# Altium schematic symbol library Diodes TVS.SchLib: 1 symbol
Pins are listed as number, name and electrical type; pins without a type are passive.

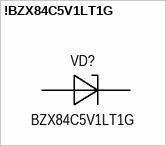
[diagram p0: symbol !BZX84C5V1LT1G]

## !BZX84C5V1LT1G
designator VD?, comment BZX84C5V1LT1G
!Diode Zener 5.1V 225mW; Manufacturer: ON Semiconductor; Group: Discrete; Component: Diode Zenner; Tolerance: ±6%; Voltage forward: 900mV; Package: SOT-23-3; Part name: BZX84C5V1LT1G; Dimension: 3.00mm x 2.60mm; Height: 1.10mm; Mounting type: Surface mount; Operating temperature: -65°C +150°C; Voltage nominal: 5.1V; Power: 225mW
footprint SOT-23
pins: 1 Anode, 3 Cathode